# EAGLE library part T6713 (library CougsInSpace-Sensors)
T6713 CO₂ Sensor
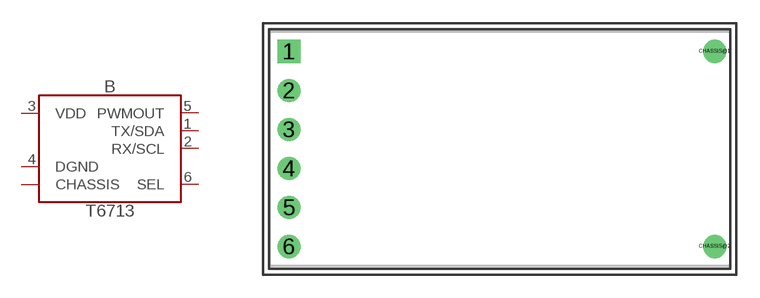
[diagram p5: symbol with the pads of T6713; footprint T6713]

Designator prefix B

## T6713 (SKU: 66-0008; VALUE: T6713 CO₂ Sensor)  [T6713]
1  TX/SDA
2  RX/SCL
3  VDD  pwr
4  DGND  pwr
5  PWMOUT  out
6  SEL  pas
CHASSIS@1  CHASSIS  pwr
CHASSIS@2  CHASSIS  pwr

## Footprint T6713 (pad centres in mm)
T6713 CO₂ Sensor
drill 1 square: 1 0,6.35
drill 1: 2 0,3.81; 3 0,1.27; 4 0,-1.27; 5 0,-3.81; 6 0,-6.35; CHASSIS@1 27.69,6.35; CHASSIS@2 27.69,-6.35